# Altium schematic symbol library 表贴连接器.SchLib: 20 symbols
Pins are listed as number, name and electrical type; pins without a type are passive.

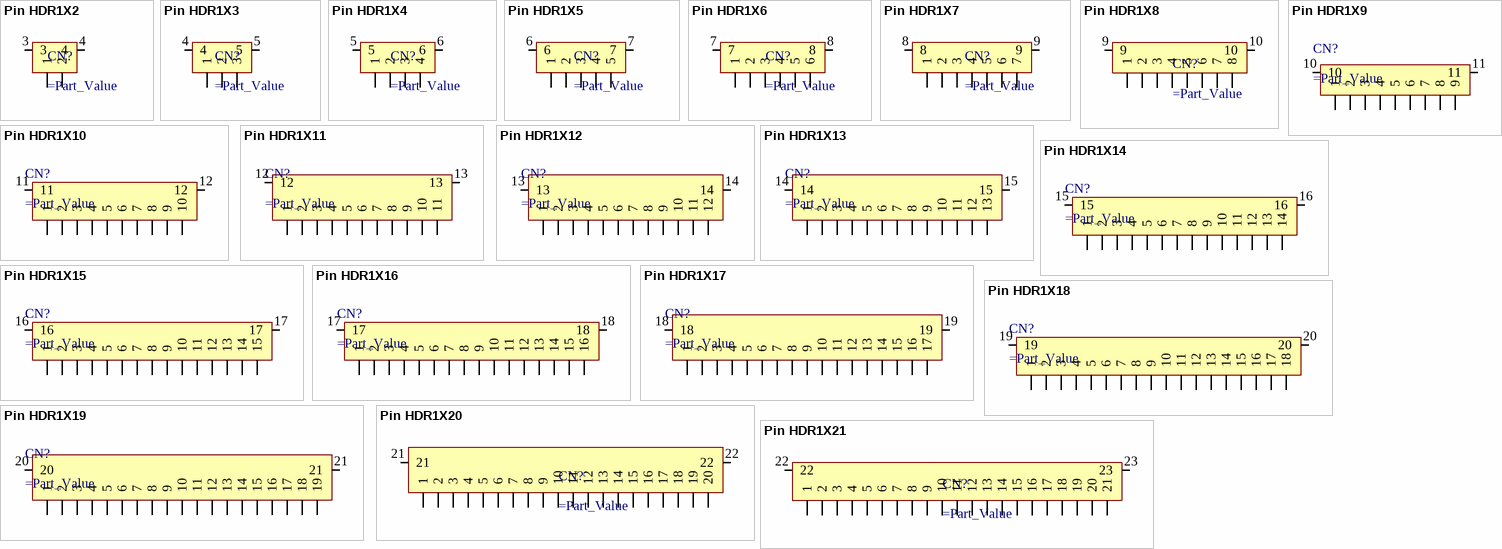
[diagram p0: symbols Pin HDR1X2 to Pin HDR1X21]

## Pin HDR1X2
designator CN?
pins: 1, 2, 3, 4

## Pin HDR1X3
designator CN?
pins: 1, 2, 3, 4, 5

## Pin HDR1X4
designator CN?
pins: 1, 2, 3, 4, 5, 6

## Pin HDR1X5
designator CN?
pins: 1, 2, 3, 4, 5, 6, 7

## Pin HDR1X6
designator CN?
pins: 1, 2, 3, 4, 5, 6, 7, 8

## Pin HDR1X7
designator CN?
pins: 1, 2, 3, 4, 5, 6, 7, 8, 9

## Pin HDR1X8
designator CN?
pins: 1, 2, 3, 4, 5, 6, 7, 8, 9, 10

## Pin HDR1X9
designator CN?
pins: 1, 2, 3, 4, 5, 6, 7, 8, 9, 10, 11

## Pin HDR1X10
designator CN?
pins: 1, 2, 3, 4, 5, 6, 7, 8, 9, 10, 11, 12

## Pin HDR1X11
designator CN?
pins: 1, 2, 3, 4, 5, 6, 7, 8, 9, 10, 11, 12, 13

## Pin HDR1X12
designator CN?
pins: 1, 2, 3, 4, 5, 6, 7, 8, 9, 10, 11, 12, 13, 14

## Pin HDR1X13
designator CN?
pins: 1, 2, 3, 4, 5, 6, 7, 8, 9, 10, 11, 12, 13, 14, 15

## Pin HDR1X14
designator CN?
pins: 1, 2, 3, 4, 5, 6, 7, 8, 9, 10, 11, 12, 13, 14, 15, 16

## Pin HDR1X15
designator CN?
pins: 1, 2, 3, 4, 5, 6, 7, 8, 9, 10, 11, 12, 13, 14, 15, 16, 17

## Pin HDR1X16
designator CN?
pins: 1, 2, 3, 4, 5, 6, 7, 8, 9, 10, 11, 12, 13, 14, 15, 16, 17, 18

## Pin HDR1X17
designator CN?
pins: 1, 2, 3, 4, 5, 6, 7, 8, 9, 10, 11, 12, 13, 14, 15, 16, 17, 18, 19

## Pin HDR1X18
designator CN?
pins: 1, 2, 3, 4, 5, 6, 7, 8, 9, 10, 11, 12, 13, 14, 15, 16, 17, 18, 19, 20

## Pin HDR1X19
designator CN?
pins: 1, 2, 3, 4, 5, 6, 7, 8, 9, 10, 11, 12, 13, 14, 15, 16, 17, 18, 19, 20, 21

## Pin HDR1X20
designator CN?
pins: 1, 2, 3, 4, 5, 6, 7, 8, 9, 10, 11, 12, 13, 14, 15, 16, 17, 18, 19, 20, 21, 22

## Pin HDR1X21
designator CN?
pins: 1, 2, 3, 4, 5, 6, 7, 8, 9, 10, 11, 12, 13, 14, 15, 16, 17, 18, 19, 20, 21, 22, 23